# EAGLE library part ISL8036 (library power)
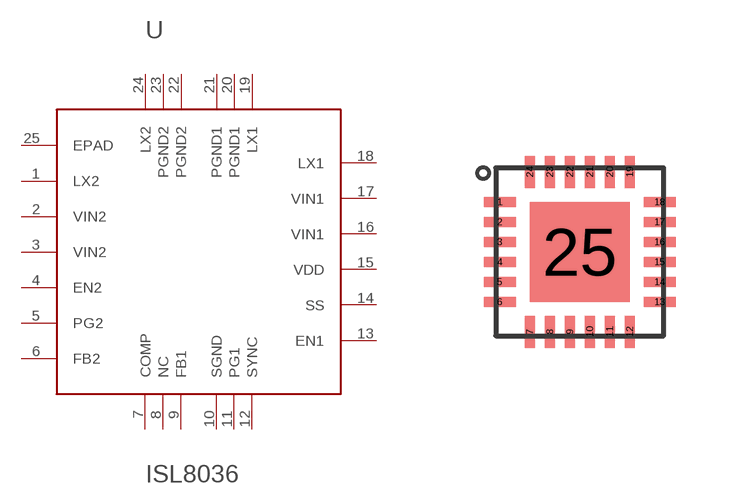
[diagram p9: symbol with the pads of ISL8036-DFN-4X4-24PIN; footprint ISL8036-DFN-4X4-24PIN]

Designator prefix U

## ISL8036  [ISL8036-DFN-4X4-24PIN]
1  LX2
2  VIN2
3  VIN2
4  EN2
5  PG2
6  FB2
7  COMP
8  NC
9  FB1
10  SGND
11  PG1
12  SYNC
13  EN1
14  SS
15  VDD
16  VIN1
17  VIN1
18  LX1
19  LX1
20  PGND1
21  PGND1
22  PGND2
23  PGND2
24  LX2
25  EPAD

## Footprint ISL8036-DFN-4X4-24PIN (pad centres in mm)
smd 0.8 x 0.25: 1 -2,1.25; 2 -2,0.75; 3 -2,0.25; 4 -2,-0.25; 5 -2,-0.75; 6 -2,-1.25; 13 2,-1.25; 14 2,-0.75; 15 2,-0.25; 16 2,0.25; 17 2,0.75; 18 2,1.25
smd 0.25 x 0.8: 7 -1.25,-2; 8 -0.75,-2; 9 -0.25,-2; 10 0.25,-2; 11 0.75,-2; 12 1.25,-2; 19 1.25,2; 20 0.75,2; 21 0.25,2; 22 -0.25,2; 23 -0.75,2; 24 -1.25,2
smd 2.5 x 2.5: 25 0,0